# Altium schematic symbol library Capacitance_Schlib.SchLib: 118 symbols
Pins are listed as number, name and electrical type; pins without a type are passive.

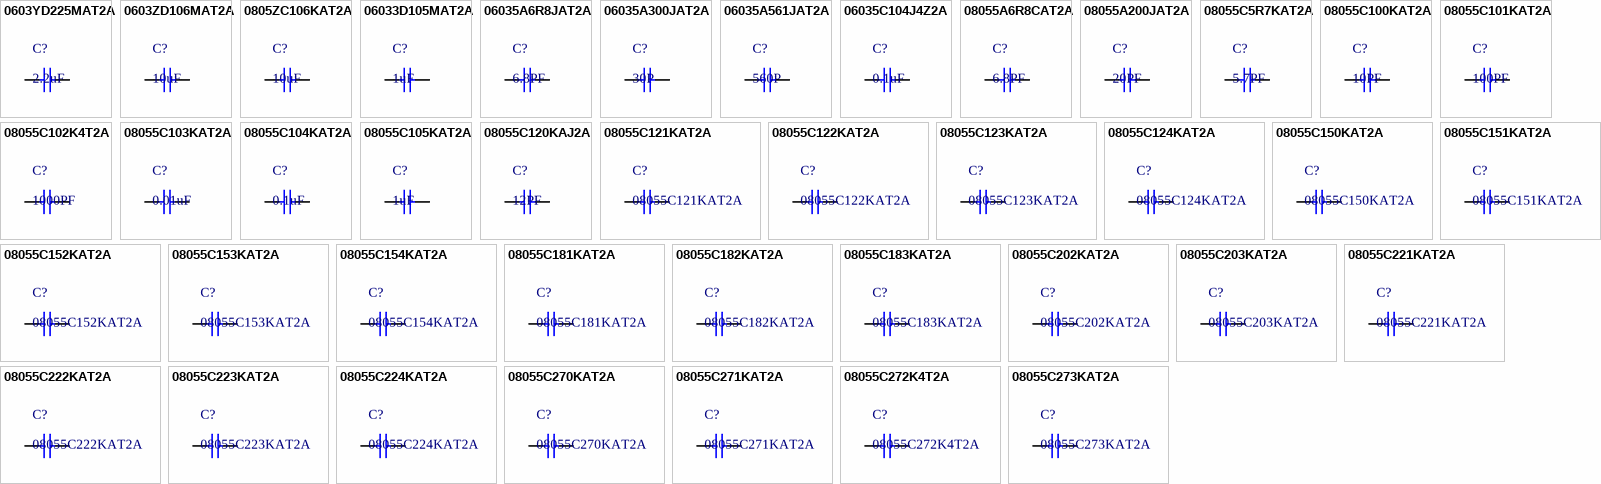
[diagram p0: symbols 0603YD225MAT2A to 08055C273KAT2A]

## 0603YD225MAT2A
designator C?, comment 2.2uF
陶瓷電容 2.2uF 16V 20% SMD0603; 製造商: AVX; 單價: 9.9; 代理商: mouser; 資料手冊: http://www.mouser.com/ds/2/40/X7RDielectric-777024.pdf; 參考網站: http://www.mouser.tw/ProductDetail/AVX/0603YD225MAT2A/?qs=sGAEpiMZZMs0AnBnWHyRQCTbZkhRx37b0dnaJ5NahmQ%3d
footprint SMD 0603 (SMD 0805)
pins: 1, 2

## 0603ZD106MAT2A
designator C?, comment 10uF
陶瓷電容 10uF 10V 20% SMD0603; 製造商: AVX; 單價: 6.78; 代理商: digikey; 資料手冊: http://www.mouser.com/ds/2/40/X7RDielectric-777024.pdf; 參考網站: http://www.digikey.tw/product-detail/zh/avx-corporation/0603ZD106MAT2A/478-8050-2-ND/3900648
footprint SMD 0603 (SMD 0805)
pins: 1, 2

## 0805ZC106KAT2A
designator C?, comment 10uF
陶瓷電容 10uF 10V  10% SMD0805; 製造商: AVX; 單價: 62.44; 代理商: mouser; 資料手冊: http://www.mouser.com/ds/2/40/X7RDielectric-777024.pdf; 參考網站: http://www.mouser.tw/ProductDetail/AVX/0805ZC106KAT2A/?qs=a6Vv43ErYnwKY7IABhy%2FMg%3D%3D
footprint SMD 0805 (SMD 0805 陶瓷電容 50V)
pins: 1, 2

## 06033D105MAT2A
designator C?, comment 1uF
陶瓷電容 1uF 25V 20% SMD0603; 製造商: AVX; 單價: 6.78; 代理商: mouser; 資料手冊: http://www.mouser.com/ds/2/40/X7RDielectric-777024.pdf; 參考網站: http://www.mouser.tw/ProductDetail/AVX/06035C104J4Z2A/?qs=sGAEpiMZZMs0AnBnWHyRQH30J%252bLMp8E0TlDTmHRkWoc%3d
footprint SMD 0603 (SMD 0805)
pins: 1, 2

## 06035A6R8JAT2A
designator C?, comment 6.8PF
陶瓷電容 6.8pF 50V 5% SMD0603; 製造商: AVX; 單價: 3.57; 代理商: mouser; 資料手冊: http://www.mouser.com/ds/2/40/X7RDielectric-777024.pdf; 參考網站: http://www.mouser.tw/ProductDetail/AVX/06035A6R8JAT2A/?qs=sGAEpiMZZMs0AnBnWHyRQLKEv3Y86MKRy7u2jyxR4co%3d
footprint SMD 0603 (SMD 0805)
pins: 1, 2

## 06035A300JAT2A
designator C?, comment 30P
陶瓷電容 30pF 50V 5% SMD0603; 製造商: AVX; 單價: 5.35; 代理商: mouser; 資料手冊: http://www.mouser.com/ds/2/40/X7RDielectric-777024.pdf; 參考網站: http://www.mouser.tw/ProductDetail/AVX/06035A300JAT2A/?qs=sGAEpiMZZMs0AnBnWHyRQE2IRmxFPR1eLpipJh0EnfI%3d
footprint SMD 0603 (SMD 0805)
pins: 1, 2

## 06035A561JAT2A
designator C?, comment 560P
陶瓷電容 560pF 50V 5% SMD0603; 製造商: AVX; 單價: 3.57; 代理商: mouser; 資料手冊: http://www.mouser.com/ds/2/40/X7RDielectric-777024.pdf; 參考網站: http://www.mouser.tw/ProductDetail/AVX/06035A561JAT2A/?qs=sGAEpiMZZMs0AnBnWHyRQLKEv3Y86MKRbDFJTOwNcPQ%3d
footprint SMD 0603 (SMD 0805)
pins: 1, 2

## 06035C104J4Z2A
designator C?, comment 0.1uF
陶瓷電容 0.1uF 50V 5% SMD0603; 製造商: AVX; 單價: 5.24; 代理商: mouser; 資料手冊: http://www.mouser.com/ds/2/40/X7RDielectric-777024.pdf; 參考網站: http://www.mouser.tw/ProductDetail/AVX/06035C104J4Z2A/?qs=sGAEpiMZZMs0AnBnWHyRQH30J%252bLMp8E0TlDTmHRkWoc%3d
footprint SMD 0603 (SMD 0805)
pins: 1, 2

## 08055A6R8CAT2A
designator C?, comment 6.8PF
陶瓷電容 6.8PF 50V  10% SMD0805; 製造商: AVX; 單價: 6.07; 代理商: mouser; 資料手冊: http://www.mouser.com/ds/2/40/X7RDielectric-777024.pdf; 參考網站: http://www.mouser.tw/ProductDetail/AVX/08055A6R8CAT2A/?qs=sGAEpiMZZMs0AnBnWHyRQAO9wz3NDm%2fChKyx6%2foi2Z8%3d
footprint SMD 0805
pins: 1, 2

## 08055A200JAT2A
designator C?, comment 20PF
陶瓷電容 20PF 50V  10% SMD0805; 製造商: AVX; 代理商: mouser; 單價: 7.85; 資料手冊: http://www.mouser.com/ds/2/40/X7RDielectric-777024.pdf; 參考網站: http://www.mouser.tw/ProductDetail/AVX/08055A200JAT2A/?qs=sGAEpiMZZMs0AnBnWHyRQKZcV7shucx0JFh1aHl0M8U%3d
footprint SMD 0805 (SMD 0805 陶瓷電容 50V)
pins: 1, 2

## 08055C5R7KAT2A
designator C?, comment 5.7PF
陶瓷電容 5.7PF 50V  10% SMD0805; 製造商: AVX; 單價: 8.56; 代理商: mouser; 資料手冊: http://www.mouser.com/ds/2/40/X7RDielectric-777024.pdf; 參考網站: http://www.mouser.tw/ProductDetail/AVX/08055C5R7KAT2A/?qs=%2fha2pyFadugwavEQUkEgxtHi6sw3BJZcSyBGQDR4yzbDgYhvZsBLvw%3d%3d
footprint SMD 0805
pins: 1, 2

## 08055C100KAT2A
designator C?, comment 10PF
陶瓷電容 10PF 50V  10% SMD0805; 製造商: AVX; 單價: 3.57; 代理商: mouser; 資料手冊: http://www.mouser.com/ds/2/40/X7RDielectric-777024.pdf; 參考網站: http://www.mouser.tw/ProductDetail/AVX/08055C100KAT2A/?qs=%2fha2pyFadugABdYl%252bpvDCSC5VxVC9CXiCwEJpNk5xdxbl3LvaOeL0g%3d%3d
footprint SMD 0805 (SMD 0805 陶瓷電容 50V)
pins: 1, 2

## 08055C101KAT2A
designator C?, comment 100PF
陶瓷電容 100PF 50V  10% SMD0805; 製造商: AVX; 單價: 3.57; 代理商: mouser; 資料手冊: http://www.mouser.com/ds/2/40/X7RDielectric-777024.pdf; 參考網站: http://www.mouser.tw/ProductDetail/AVX/08055C101KAT2A/?qs=%2fha2pyFadugABdYl%252bpvDCc2iBqrY81QQbrR%252bYzhKnlIOAG420oOEXw%3d%3d
footprint SMD 0805 (SMD 0805 陶瓷電容 50V)
pins: 1, 2

## 08055C102K4T2A
designator C?, comment 1000PF
陶瓷電容 1000PF 50V  10% SMD0805; 製造商: AVX; 單價: 3.57; 代理商: mouser; 資料手冊: http://www.mouser.com/ds/2/40/X7RDielectric-777024.pdf; 參考網站: http://www.mouser.tw/ProductDetail/AVX/08055C102K4T2A/?qs=%2fha2pyFadugABdYl%252bpvDCfPVY%2fz2fpKiyTC33zSVh%252bg6yDTcM9iSAg%3d%3d
footprint SMD 0805 (SMD 0805 陶瓷電容 50V)
pins: 1, 2

## 08055C103KAT2A
designator C?, comment 0.01uF
陶瓷電容 0.01uF 50V  10% SMD0805; 製造商: AVX; 單價: 3.57; 代理商: mouser; 參考網站: http://www.mouser.tw/ProductDetail/AVX/08055C103KAT2A/?qs=%2fha2pyFadugABdYl%252bpvDCfUWmiWnxnZoWzPaZpOflYPE2ZdTONpA7A%3d%3d; 資料手冊: http://www.mouser.com/ds/2/40/X7RDielectric-777024.pdf
footprint SMD 0805 (SMD 0805 陶瓷電容 50V)
pins: 1, 2

## 08055C104KAT2A
designator C?, comment 0.1uF
陶瓷電容 0.1uF 50V  10% SMD0805; 製造商: AVX; 代理商: mouser; 單價: 3.57; 資料手冊: http://www.mouser.com/ds/2/40/X7RDielectric-777024.pdf; 參考網站: http://www.mouser.tw/ProductDetail/AVX/08055C104KAT2A/?qs=%2fha2pyFadugABdYl%252bpvDCSu%2f0gIiDMogsImF%252bHwVCYE51NjgWwhlrg%3d%3d
footprint SMD 0805 (SMD 0805 陶瓷電容 50V)
pins: 1, 2

## 08055C105KAT2A
designator C?, comment 1uF
陶瓷電容 1uF 50V  10% SMD0805; 製造商: AVX; 代理商: mouser; 單價: 57.09; 資料手冊: http://www.mouser.com/ds/2/40/X7RDielectric-777024.pdf; 參考網站: http://www.mouser.tw/ProductDetail/AVX/08055C105KAT2A/?qs=sGAEpiMZZMs0AnBnWHyRQAO9wz3NDm%2fCuJz%252bSTTZ0Vw%3d
footprint SMD 0805 (SMD 0805 陶瓷電容 50V)
pins: 1, 2

## 08055C120KAJ2A
designator C?, comment 12PF
陶瓷電容 12PF 50V  10% SMD0805; 製造商: AVX; 代理商: mouser; 單價: 5.42; 資料手冊: http://www.mouser.com/ds/2/40/X7RDielectric-777024.pdf; 參考望站: http://www.mouser.tw/ProductDetail/AVX/08055C120KAJ2A/?qs=%2fha2pyFaduhvDSS1lqvv289BFqqSURwO2sh4a1VaIY6whiWkidbFGQ%3d%3d
footprint SMD 0805 (SMD 0805 陶瓷電容 50V)
pins: 1, 2

## 08055C121KAT2A
designator C?
陶瓷電容 120PF 50V  10% SMD0805; 製造商: AVX; 代理商: mouser; 單價: 10.70; 資料手冊: http://www.mouser.com/ds/2/40/X7RDielectric-777024.pdf; 參考網站: http://www.mouser.tw/ProductDetail/AVX/08055C121KAT2A/?qs=%2fha2pyFaduhvDSS1lqvv2zQtgJIpaR%252b4QmdwHy9IXOGj8VaReNZ%2f3w%3d%3d
footprint SMD 0805 (SMD 0805 陶瓷電容 50V)
pins: 1, 2

## 08055C122KAT2A
designator C?
陶瓷電容 1200PF 50V  10% SMD0805; 製造商: AVX; 單價: 3.57; 代理商: mouser; 資料手冊: http://www.mouser.com/ds/2/40/X7RDielectric-777024.pdf; 參考網站: http://www.mouser.tw/ProductDetail/AVX/08055C122KAT2A/?qs=%2fha2pyFaduhvDSS1lqvv2zwVoEBVMpfPRx31WDuYxHPN9NFL%2fznY0A%3d%3d
footprint SMD 0805 (SMD 0805 陶瓷電容 50V)
pins: 1, 2

## 08055C123KAT2A
designator C?
陶瓷電容 0.012uF 50V  10% SMD0805; 製造商: AVX; 代理商: mouser; 單價: 3.57; 資料手冊: http://www.mouser.com/ds/2/40/X7RDielectric-777024.pdf; 參考網站: http://www.mouser.tw/ProductDetail/AVX/08055C123KAT2A/?qs=%2fha2pyFaduhvDSS1lqvv21dbH7VJPfJtCSCEsQc%2fXEQL%252biUjfj2qIg%3d%3d
footprint SMD 0805 (SMD 0805 陶瓷電容 50V)
pins: 1, 2

## 08055C124KAT2A
designator C?
陶瓷電容 0.12uF 50V  10% SMD0805; 製造商: AVX; 代理商: mouser; 單價: 5.71; 資料手冊: http://www.mouser.com/ds/2/40/X7RDielectric-777024.pdf; 參考網站: http://www.mouser.tw/ProductDetail/AVX/08055C124KAT2A/?qs=%2fha2pyFaduhvDSS1lqvv290q9uUvEeaDqlsqQqD5Jl1j%252blcf5eIL6g%3d%3d
footprint SMD 0805 (SMD 0805 陶瓷電容 50V)
pins: 1, 2

## 08055C150KAT2A
designator C?
陶瓷電容 15PF 50V  10% SMD0805; 製造商: AVX; 代理商: mouser; 單價: 8.92; 資料手冊: http://www.mouser.com/ds/2/40/X7RDielectric-777024.pdf; 參考網站: http://www.mouser.tw/ProductDetail/AVX/08055C150KAT2A/?qs=%2fha2pyFaduj6QpEZmq%252bAX8a7ZIh8Pc0qYD1fiVI%2fgu92TjSlY8ImWg%3d%3d
footprint SMD 0805 (SMD 0805 陶瓷電容 50V)
pins: 1, 2

## 08055C151KAT2A
designator C?
陶瓷電容 150PF 50V  10% SMD0805; 製造商: AVX; 代理商: mouser; 單價: 3.57; 資料手冊: http://www.mouser.com/ds/2/40/X7RDielectric-777024.pdf; 參考網站: http://www.mouser.tw/ProductDetail/AVX/08055C151KAT2A/?qs=%2fha2pyFaduj6QpEZmq%252bAX6nCnr4go4SrvrccrMxObCbK0LeLHZnGtg%3d%3d
footprint SMD 0805 (SMD 0805 陶瓷電容 50V)
pins: 1, 2

## 08055C152KAT2A
designator C?
陶瓷電容 1500PF 50V  10% SMD0805; 製造商: AVX; 代理商: mouser; 單價: 3.57; 資料手冊: http://www.mouser.com/ds/2/40/X7RDielectric-777024.pdf; 參考網站: http://www.mouser.tw/ProductDetail/AVX/08055C152KAT2A/?qs=%2fha2pyFaduj6QpEZmq%252bAXwPZ%252b8G8ktHufeQdSt55UvcoP%252b7C%252bpdOLA%3d%3d
footprint SMD 0805 (SMD 0805 陶瓷電容 50V)
pins: 1, 2

## 08055C153KAT2A
designator C?
陶瓷電容 0.015uF 50V  10% SMD0805; 製造商: AVX; 代理商: mouser; 單價: 3.57; 資料手冊: http://www.mouser.com/ds/2/40/X7RDielectric-777024.pdf; 參考網站: http://www.mouser.tw/ProductDetail/AVX/08055C152KAT2A/?qs=%2fha2pyFaduj6QpEZmq%252bAXwPZ%252b8G8ktHufeQdSt55UvcoP%252b7C%252bpdOLA%3d%3d
footprint SMD 0805 (SMD 0805 陶瓷電容 50V)
pins: 1, 2

## 08055C154KAT2A
designator C?
陶瓷電容 0.15uF 50V  10% SMD0805; 製造商: AVX; 代理商: mouser; 單價: 15.70; 資料手冊: http://www.mouser.com/ds/2/40/X7RDielectric-777024.pdf; 參考網站: http://www.mouser.tw/ProductDetail/AVX/08055C154KAT2A/?qs=%2fha2pyFaduj6QpEZmq%252bAX5c5Jqq4gj0GUOoyZofpe4uHdJjO%252bURpkg%3d%3d
footprint SMD 0805 (SMD 0805 陶瓷電容 50V)
pins: 1, 2

## 08055C181KAT2A
designator C?
陶瓷電容 180PF 50V  10% SMD0805; 製造商: AVX; 代理商: mouser; 單價: 9.99; 資料手冊: http://www.mouser.com/ds/2/40/X7RDielectric-777024.pdf; 參考網站: http://www.mouser.tw/ProductDetail/AVX/08055C181KAT2A/?qs=%2fha2pyFaduhODsQ2w18WQ9qSDGQK4eqncz%252bmuS4bmrUhsp5knG%252b8qQ%3d%3d
footprint SMD 0805 (SMD 0805 陶瓷電容 50V)
pins: 1, 2

## 08055C182KAT2A
designator C?
陶瓷電容 1800PF 50V  10% SMD0805; 製造商: AVX; 代理商: mouser; 單價: 3.57; 資料手冊: http://www.mouser.com/ds/2/40/X7RDielectric-777024.pdf; 參考網站: http://www.mouser.tw/ProductDetail/AVX/08055C182KAT2A/?qs=%2fha2pyFaduhODsQ2w18WQyL%2fhur%2fcGrZBGCZs3Lwwq0rbwbbWnp0qQ%3d%3d
footprint SMD 0805 (SMD 0805 陶瓷電容 50V)
pins: 1, 2

## 08055C183KAT2A
designator C?
陶瓷電容 0.018uF 50V  10% SMD0805; 製造商: AVX; 代理商: mouser; 單價: 5.71; 資料手冊: http://www.mouser.com/ds/2/40/X7RDielectric-777024.pdf; 參考網站: http://www.mouser.tw/ProductDetail/AVX/08055C183KAT2A/?qs=%2fha2pyFaduhODsQ2w18WQ8nCLIDiNshg1%2f6VQo2%252bJSUrKufCOGkLIA%3d%3d
footprint SMD 0805 (SMD 0805 陶瓷電容 50V)
pins: 1, 2

## 08055C202KAT2A
designator C?
陶瓷電容 2000PF 50V  10% SMD0805; 製造商: AVX; 代理商: mouser; 單價: 9.99; 資料手冊: http://www.mouser.com/ds/2/40/X7RDielectric-777024.pdf; 參考網站: http://www.mouser.tw/ProductDetail/AVX/08055C202KAT2A/?qs=%2fha2pyFaduj5PEQTHbgXxcNN9nhH3i5Avb2hs4zjnjXJeh2X7EJW%2fA%3d%3d
footprint SMD 0805 (SMD 0805 陶瓷電容 50V)
pins: 1, 2

## 08055C203KAT2A
designator C?
陶瓷電容 0.02uF 50V  10% SMD0805; 製造商: AVX; 單價: 5.00; 代理商: mouser; 資料手冊: http://www.mouser.com/ds/2/40/X7RDielectric-777024.pdf; 參考網站: http://www.mouser.tw/ProductDetail/AVX/08055C203KAT2A/?qs=%2fha2pyFaduj5PEQTHbgXxVDUT1T5bxwfkl8K%252b%2fx%2fMteywBtBq6mkuQ%3d%3d
footprint SMD 0805 (SMD 0805 陶瓷電容 50V)
pins: 1, 2

## 08055C221KAT2A
designator C?
陶瓷電容 220PF 50V  10% SMD0805; 製造商: AVX; 代理商: mouser; 單價: 5.07; 資料手冊: http://www.mouser.com/ds/2/40/X7RDielectric-777024.pdf; 參考網站: http://www.mouser.tw/ProductDetail/AVX/08055C221KAT2A/?qs=%2fha2pyFaduhiyqy4tQImpE5cSr3sKtKTPewuF11yuIkLMTEl8SEPcg%3d%3d
footprint SMD 0805 (SMD 0805 陶瓷電容 50V)
pins: 1, 2

## 08055C222KAT2A
designator C?
陶瓷電容 2200PF 50V  10% SMD0805; 製造商: AVX; 單價: 3.57; 代理商: mouser; 資料手冊: http://www.mouser.com/ds/2/40/X7RDielectric-777024.pdf; 參考網站: http://www.mouser.tw/ProductDetail/AVX/08055C222KAT2A/?qs=%2fha2pyFaduhiyqy4tQImpKpknetSnsDiX5ib5UzanEUEfEpg%252bqU8BA%3d%3d
footprint SMD 0805 (SMD 0805 陶瓷電容 50V)
pins: 1, 2

## 08055C223KAT2A
designator C?
陶瓷電容 0.022uF 50V  10% SMD0805; 製造商: AVX; 代理商: mouser; 單價: 3.57; 資料手冊: http://www.mouser.com/ds/2/40/X7RDielectric-777024.pdf; 參考網站: http://www.mouser.tw/ProductDetail/AVX/08055C223KAT2A/?qs=%2fha2pyFaduhiyqy4tQImpCkMoPNnbhZ0EA56uwwgGBreJN33ZT3sSw%3d%3d
footprint SMD 0805 (SMD 0805 陶瓷電容 50V)
pins: 1, 2

## 08055C224KAT2A
designator C?
陶瓷電容 0.22uF 50V  10% SMD0805; 製造商: AVX; 代理商: mouser; 單價: 4.28; 資料手冊: http://www.mouser.com/ds/2/40/X7RDielectric-777024.pdf; 參考網站: http://www.mouser.tw/ProductDetail/AVX/08055C224KAT2A/?qs=sGAEpiMZZMs0AnBnWHyRQKdiqyDPVQdAnFaDfxbpL%2fE%3d
footprint SMD 0805 (SMD 0805 陶瓷電容 50V)
pins: 1, 2

## 08055C270KAT2A
designator C?
陶瓷電容 27PF 50V  10% SMD0805; 製造商: AVX; 代理商: mouser; 單價: 8.21; 資料手冊: http://www.mouser.com/ds/2/40/X7RDielectric-777024.pdf; 參考網站: http://www.mouser.tw/ProductDetail/AVX/08055C270KAT2A/?qs=%2fha2pyFaduhkPjja%2ffED6bKRfn%252bpTtmXtaVFEVU8SC6eMeCffBdBrA%3d%3d
footprint SMD 0805 (SMD 0805 陶瓷電容 50V)
pins: 1, 2

## 08055C271KAT2A
designator C?
陶瓷電容 270PF 50V  10% SMD0805; 製造商: AVX; 代理商: mouser; 單價: 6.07; 資料手冊: http://www.mouser.com/ds/2/40/X7RDielectric-777024.pdf; 參考網站: http://www.mouser.tw/ProductDetail/AVX/08055C271KAT2A/?qs=%2fha2pyFaduhkPjja%2ffED6eEbAYaZNCyL3%252bNXTvccu8tSMTcYBGiv8A%3d%3d
footprint SMD 0805 (SMD 0805 陶瓷電容 50V)
pins: 1, 2

## 08055C272K4T2A
designator C?
陶瓷電容 2700PF 50V  10% SMD0805; 製造商: AVX; 代理商: mouser; 單價: 3.92; 資料手冊: http://www.mouser.com/ds/2/40/X7RDielectric-777024.pdf; 參考網站: http://www.mouser.tw/ProductDetail/AVX/08055C272K4T2A/?qs=%2fha2pyFaduhkPjja%2ffED6Qys6F5K89znpyVLNr20U9VPyqjq7SXHCw%3d%3d
footprint SMD 0805 (SMD 0805 陶瓷電容 50V)
pins: 1, 2

## 08055C273KAT2A
designator C?
陶瓷電容 0.027uF 50V  10% SMD0805; 製造商: AVX; 代理商: mouser; 單價: 3.57; 資料手冊: http://www.mouser.com/ds/2/40/X7RDielectric-777024.pdf; 參考網站: http://www.mouser.tw/ProductDetail/AVX/08055C273KAT2A/?qs=%2fha2pyFaduhkPjja%2ffED6XCGh%2feZpTGYgKpkC5hoOGR8h6FDFoLugQ%3d%3d
footprint SMD 0805 (SMD 0805 陶瓷電容 50V)
pins: 1, 2

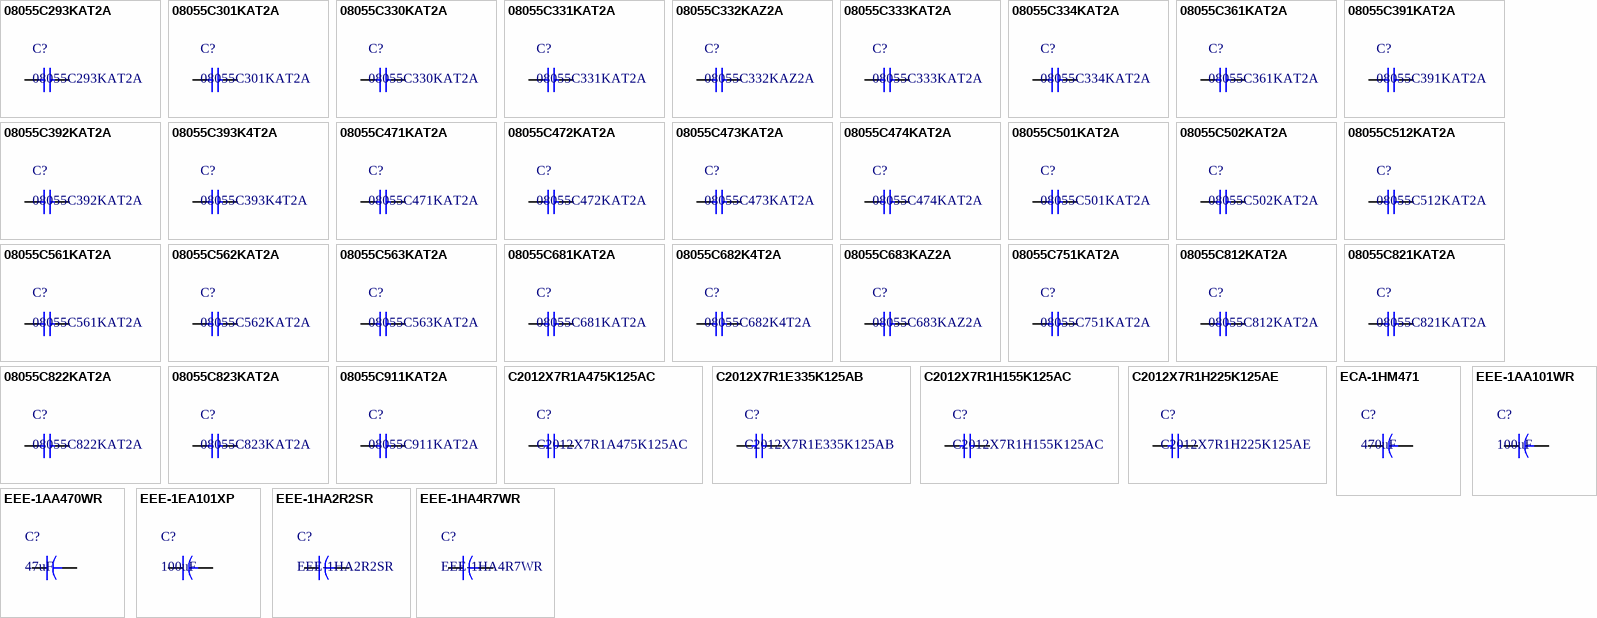
[diagram p1: symbols 08055C293KAT2A to EEE-1HA4R7WR]

## 08055C293KAT2A
designator C?
陶瓷電容 0.029uF 50V  10% SMD0805; 製造商: AVX; 代理商: mouser; 單價: 4.64; 資料手冊: http://www.mouser.com/ds/2/40/X7RDielectric-777024.pdf; 參考網站: http://www.mouser.tw/ProductDetail/AVX/08055C293KAT2A/?qs=%2fha2pyFadugJf2TCnGREBPJyJjLq02XwKV0DdUblw3ADi1UJBTDCuQ%3d%3d
footprint SMD 0805 (SMD 0805 陶瓷電容 50V)
pins: 1, 2

## 08055C301KAT2A
designator C?
陶瓷電容 300PF 50V  10% SMD0805; 製造商: AVX; 代理商: mouser; 單價: 9.28; 資料手冊: http://www.mouser.com/ds/2/40/X7RDielectric-777024.pdf; 參考網站: http://www.mouser.tw/ProductDetail/AVX/08055C301KAT2A/?qs=%2fha2pyFaduiTsiu1yKtwQwZmN0Adb%2fwjl8tQ0oT1R938Rmhr35%2fYTQ%3d%3d
footprint SMD 0805 (SMD 0805 陶瓷電容 50V)
pins: 1, 2

## 08055C330KAT2A
designator C?
陶瓷電容 33PF 50V  10% SMD0805; 製造商: AVX; 代理商: mouser; 單價: 8.92; 資料手冊: http://www.mouser.com/ds/2/40/X7RDielectric-777024.pdf; 參考網站: http://www.mouser.tw/ProductDetail/AVX/08055C330KAT2A/?qs=%2fha2pyFaduhJ1u9vNal0XtHW6b5mmQMjDGZ7v7sHNC8ct8WThUP6zg%3d%3d
footprint SMD 0805 (SMD 0805 陶瓷電容 50V)
pins: 1, 2

## 08055C331KAT2A
designator C?
陶瓷電容 330PF 50V  10% SMD0805; 製造商: AVX; 代理商: mouser; 單價: 6.07; 資料手冊: http://www.mouser.com/ds/2/40/X7RDielectric-777024.pdf; 參考網站: http://www.mouser.tw/ProductDetail/AVX/08055C331KAT2A/?qs=%2fha2pyFaduhJ1u9vNal0Xpw%2fUWniV8YgsN5BtYspK21UYOXOaTB%252bbw%3d%3d
footprint SMD 0805 (SMD 0805 陶瓷電容 50V)
pins: 1, 2

## 08055C332KAZ2A
designator C?
陶瓷電容 3300PF 50V  10% SMD0805; 製造商: AVX; 代理商: mouser; 單價: 6.78; 資料手冊: http://www.mouser.com/ds/2/40/X7RDielectric-777024.pdf; 參考網站: http://www.mouser.tw/ProductDetail/AVX/08055C332KAZ2A/?qs=sGAEpiMZZMs0AnBnWHyRQKdiqyDPVQdA03gzxod9vyk%3d
footprint SMD 0805 (SMD 0805 陶瓷電容 50V)
pins: 1, 2

## 08055C333KAT2A
designator C?
陶瓷電容 0.033uF 50V  10% SMD0805; 製造商: AVX; 代理商: mouser; 單價: 3.57; 資料手冊: http://www.mouser.com/ds/2/40/X7RDielectric-777024.pdf; 參考網站: http://www.mouser.tw/ProductDetail/AVX/08055C333KAT2A/?qs=%2fha2pyFaduhJ1u9vNal0XhBIYCJf8LcLqIh7BAiA%2fv%2fZpQrSadtk6g%3d%3d
footprint SMD 0805 (SMD 0805 陶瓷電容 50V)
pins: 1, 2

## 08055C334KAT2A
designator C?
陶瓷電容 0.33uF 50V  10% SMD0805; 製造商: AVX; 代理商: mouser; 單價: 9.63; 資料手冊: http://www.mouser.com/ds/2/40/X7RDielectric-777024.pdf; 參考網站: http://www.mouser.tw/ProductDetail/AVX/08055C334KAT2A/?qs=%2fha2pyFaduhJ1u9vNal0XjoP0nAcPx35JD6rhzB%252bxdTserfT02A1vA%3d%3d
footprint SMD 0805 (SMD 0805 陶瓷電容 50V)
pins: 1, 2

## 08055C361KAT2A
designator C?
陶瓷電容 360PF 50V  10% SMD0805; 製造商: AVX; 代理商: mouser; 單價: 9.28; 資料手冊: http://www.mouser.com/ds/2/40/X7RDielectric-777024.pdf; 參考網站: http://www.mouser.tw/ProductDetail/AVX/08055C361KAT2A/?qs=%2fha2pyFaduiJFjIaPg2Udq%2fXYXOoxZD3qMqyTRO1Cf4GqgSZNepn5A%3d%3d
footprint SMD 0805 (SMD 0805 陶瓷電容 50V)
pins: 1, 2

## 08055C391KAT2A
designator C?
陶瓷電容 390PF 50V  10% SMD0805; 製造商: AVX; 代理商: mouser; 單價: 6.07; 資料手冊: http://www.mouser.com/ds/2/40/X7RDielectric-777024.pdf; 參考網站: http://www.mouser.tw/ProductDetail/AVX/08055C391KAT2A/?qs=%2fha2pyFadujvYiP%252b0VNUYhTVA3ycD4eP1GlItpv7W7hReeyvRld5FQ%3d%3d
footprint SMD 0805 (SMD 0805 陶瓷電容 50V)
pins: 1, 2

## 08055C392KAT2A
designator C?
陶瓷電容 3900PF 50V  10% SMD0805; 製造商: AVX; 代理商: mouser; 單價: 3.57; 資料手冊: http://www.mouser.com/ds/2/40/X7RDielectric-777024.pdf; 參考網站: http://www.mouser.tw/ProductDetail/AVX/08055C392KAT2A/?qs=%2fha2pyFadujvYiP%252b0VNUYoZkDvIW3J8I8UIc4bHNnEYDKTwTemy1JQ%3d%3d
footprint SMD 0805 (SMD 0805 陶瓷電容 50V)
pins: 1, 2

## 08055C393K4T2A
designator C?
陶瓷電容 0.039uF 50V  10% SMD0805; 製造商: AVX; 代理商: mouser; 單價: 4.28; 資料手冊: http://www.mouser.com/ds/2/40/X7RDielectric-777024.pdf; 參考網站: http://www.mouser.tw/ProductDetail/AVX/08055C393K4T2A/?qs=%2fha2pyFadujvYiP%252b0VNUYs91ME1nYe03G1LsyK47PeRSjvb7jwgkHw%3d%3d
footprint SMD 0805 (SMD 0805 陶瓷電容 50V)
pins: 1, 2

## 08055C471KAT2A
designator C?
陶瓷電容 470PF 50V  10% SMD0805; 製造商: AVX; 代理商: mouser; 單價: 6.07; 資料手冊: http://www.mouser.com/ds/2/40/X7RDielectric-777024.pdf; 參考網站: http://www.mouser.tw/ProductDetail/AVX/08055C471KAT2A/?qs=%2fha2pyFadujqXenhj3%252bwjkWQq7WEKXDCcTxOd9wJvkHIYlw1nAEBXw%3d%3d
footprint SMD 0805 (SMD 0805 陶瓷電容 50V)
pins: 1, 2

## 08055C472KAT2A
designator C?
陶瓷電容 4700PF 50V  10% SMD0805; 製造商: AVX; 代理商: mouser; 單價: 3.57; 資料手冊: http://www.mouser.com/ds/2/40/X7RDielectric-777024.pdf; 參考網站: http://www.mouser.tw/ProductDetail/AVX/08055C472KAT2A/?qs=%2fha2pyFadujqXenhj3%252bwjmtCLX2PDnZV%2fbuAm0Rr1ZItdua6%252bulVgA%3d%3d
footprint SMD 0805 (SMD 0805 陶瓷電容 50V)
pins: 1, 2

## 08055C473KAT2A
designator C?
陶瓷電容 0.047uF 50V  10% SMD0805; 製造商: AVX; 代理商: mouser; 單價: 3.57; 資料手冊: http://www.mouser.com/ds/2/40/X7RDielectric-777024.pdf; 參考網站: http://www.mouser.tw/ProductDetail/AVX/08055C473KAT2A/?qs=%2fha2pyFadujqXenhj3%252bwjvwZqQeP8QOB74r8kT8CQ%2fx6qSenuP4sWg%3d%3d
footprint SMD 0805 (SMD 0805 陶瓷電容 50V)
pins: 1, 2

## 08055C474KAT2A
designator C?
陶瓷電容 0.47uF 50V  10% SMD0805; 製造商: AVX; 代理商: mouser; 單價: 7.49; 資料手冊: http://www.mouser.com/ds/2/40/X7RDielectric-777024.pdf; 參考網站: http://www.mouser.tw/ProductDetail/AVX/08055C474KAT2A/?qs=%2fha2pyFadujqXenhj3%252bwjiP%252bj4Syu5XgzCXz0EF%2fpDsJfw4nmeio3w%3d%3d
footprint SMD 0805 (SMD 0805 陶瓷電容 50V)
pins: 1, 2

## 08055C501KAT2A
designator C?
陶瓷電容 500PF 50V  10% SMD0805; 製造商: AVX; 代理商: mouser; 單價: 9.28; 資料手冊: http://www.mouser.com/ds/2/40/X7RDielectric-777024.pdf; 參考網站: http://www.mouser.tw/ProductDetail/AVX/08055C501KAT2A/?qs=%2fha2pyFaduga9eT6k8Oh%252bC%2fRdO7PIzwtaSj5VuNgHh%2fxlk5cV%2fM6nw%3d%3d
footprint SMD 0805 (SMD 0805 陶瓷電容 50V)
pins: 1, 2

## 08055C502KAT2A
designator C?
陶瓷電容 5000PF 50V  10% SMD0805; 製造商: AVX; 代理商: mouser; 單價: 5.00; 資料手冊: http://www.mouser.com/ds/2/40/X7RDielectric-777024.pdf; 參考網站: http://www.mouser.tw/ProductDetail/AVX/08055C502KAT2A/?qs=%2fha2pyFaduga9eT6k8Oh%252bArsJ3X8%2fm80BFv9SfFeCw21WD7roy%2fmug%3d%3d
footprint SMD 0805 (SMD 0805 陶瓷電容 50V)
pins: 1, 2

## 08055C512KAT2A
designator C?
陶瓷電容 5100PF 50V  10% SMD0805; 製造商: AVX; 代理商: mouser; 單價: 4.64; 資料手冊: http://www.mouser.com/ds/2/40/X7RDielectric-777024.pdf; 參考網站: http://www.mouser.tw/ProductDetail/AVX/08055C512KAT2A/?qs=%2fha2pyFaduilTFGKcIINd82aihhIjNQj69t1fgcezL6%252bribGNP3j8A%3d%3d
footprint SMD 0805 (SMD 0805 陶瓷電容 50V)
pins: 1, 2

## 08055C561KAT2A
designator C?
陶瓷電容 560PF 50V  10% SMD0805; 製造商: AVX; 代理商: mouser; 單價: 6.07; 資料手冊: http://www.mouser.com/ds/2/40/X7RDielectric-777024.pdf; 參考網站: http://www.mouser.tw/ProductDetail/AVX/08055C561KAT2A/?qs=sGAEpiMZZMs0AnBnWHyRQO9s69WCSOSMYd2cgLSQgAg%3d
footprint SMD 0805 (SMD 0805 陶瓷電容 50V)
pins: 1, 2

## 08055C562KAT2A
designator C?
陶瓷電容 5600PF 50V  10% SMD0805; 製造商: AVX; 代理商: mouser; 單價: 5.71; 資料手冊: http://www.mouser.com/ds/2/40/X7RDielectric-777024.pdf; 參考網站: http://www.mouser.tw/ProductDetail/AVX/08055C562KAT2A/?qs=sGAEpiMZZMs0AnBnWHyRQO9s69WCSOSMYomtmQH6XDA%3d
footprint SMD 0805 (SMD 0805 陶瓷電容 50V)
pins: 1, 2

## 08055C563KAT2A
designator C?
陶瓷電容 0.056uF 50V  10% SMD0805; 製造商: AVX; 代理商: mouser; 單價: 3.57; 資料手冊: http://www.mouser.com/ds/2/40/X7RDielectric-777024.pdf; 參考網站: http://www.mouser.tw/ProductDetail/AVX/08055C563KAT2A/?qs=sGAEpiMZZMs0AnBnWHyRQO9s69WCSOSMbfstSvu6HgM%3d
footprint SMD 0805 (SMD 0805 陶瓷電容 50V)
pins: 1, 2

## 08055C681KAT2A
designator C?
陶瓷電容 680PF 50V  10% SMD0805; 製造商: AVX; 代理商: mouser; 單價: 6.07; 資料手冊: http://www.mouser.com/ds/2/40/X7RDielectric-777024.pdf; 參考網站: http://www.mouser.tw/ProductDetail/AVX/08055C681KAT2A/?qs=%2fha2pyFaduiy8pdXGfOaOZ91mGsd8l4MHhAUCg3x%252bX55HSbIL%2ftTjQ%3d%3d
footprint SMD 0805 (SMD 0805 陶瓷電容 50V)
pins: 1, 2

## 08055C682K4T2A
designator C?
陶瓷電容 6800PF 50V  10% SMD0805; 製造商: AVX; 代理商: mouser; 單價: 9.28; 資料手冊: http://www.mouser.com/ds/2/40/X7RDielectric-777024.pdf; 參考網站: http://www.mouser.tw/ProductDetail/AVX/08055C682K4T2A/?qs=%2fha2pyFaduiy8pdXGfOaOf%2fYLTbN6axISyvy2C6AgMQ%252bqqr5qca%2fKw%3d%3d
footprint SMD 0805 (SMD 0805 陶瓷電容 50V)
pins: 1, 2

## 08055C683KAZ2A
designator C?
陶瓷電容 0.068uF 50V  10% SMD0805; 製造商: AVX; 代理商: mouser; 單價: 8.56; 資料手冊: http://www.mouser.com/ds/2/40/X7RDielectric-777024.pdf; 參考網站: http://www.mouser.tw/ProductDetail/AVX/08055C683KAZ2A/?qs=%2fha2pyFaduiy8pdXGfOaOQjkRXIJhAOgzrIqwaQPKumKfcQ7M2kRtw%3d%3d
footprint SMD 0805 (SMD 0805 陶瓷電容 50V)
pins: 1, 2

## 08055C751KAT2A
designator C?
陶瓷電容 750PF 50V  10% SMD0805; 製造商: AVX; 代理商: mouser; 單價: 9.28; 資料手冊: http://www.mouser.com/ds/2/40/X7RDielectric-777024.pdf; 參考網站: http://www.mouser.tw/ProductDetail/AVX/08055C751KAT2A/?qs=%2fha2pyFaduiaj3BJlK4aZnWn1Q4DGH8XWlfQwtNDyr9%2fDUTRTDgqWg%3d%3d
footprint SMD 0805 (SMD 0805 陶瓷電容 50V)
pins: 1, 2

## 08055C812KAT2A
designator C?
陶瓷電容 8100PF 50V  10% SMD0805; 製造商: AVX; 代理商: mouser; 單價: 9.28; 資料手冊: http://www.mouser.com/ds/2/40/X7RDielectric-777024.pdf; 參考網站: http://www.mouser.tw/ProductDetail/AVX/08055C812KAT2A/?qs=%2fha2pyFadui4IbKVKa08BAL76RvbBVwiTslVW4Hri7WM0zBMBQOISw%3d%3d
footprint SMD 0805 (SMD 0805 陶瓷電容 50V)
pins: 1, 2

## 08055C821KAT2A
designator C?
陶瓷電容 820PF 50V  10% SMD0805; 製造商: AVX; 代理商: mouser; 單價: 6.07; 資料手冊: http://www.mouser.com/ds/2/40/X7RDielectric-777024.pdf; 參考網站: http://www.mouser.tw/ProductDetail/AVX/08055C821KAT2A/?qs=%2fha2pyFadugxqtDP3nrXCcSqLA1UrWFP9gNcJO%252bcL1jLAWYFOA1%2fRA%3d%3d
footprint SMD 0805 (SMD 0805 陶瓷電容 50V)
pins: 1, 2

## 08055C822KAT2A
designator C?
陶瓷電容 8200PF 50V  10% SMD0805; 製造商: AVX; 代理商: mouser; 單價: 3.57; 資料手冊: http://www.mouser.com/ds/2/40/X7RDielectric-777024.pdf; 參考網站: http://www.mouser.tw/ProductDetail/AVX/08055C822KAT2A/?qs=%2fha2pyFadugxqtDP3nrXCQcspvidui1ljiycIra5z2JGNWejhEQrhQ%3d%3d
footprint SMD 0805 (SMD 0805 陶瓷電容 50V)
pins: 1, 2

## 08055C823KAT2A
designator C?
陶瓷電容 0.082uF 50V  10% SMD0805; 製造商: AVX; 代理商: mouser; 單價: 3.57; 資料手冊: http://www.mouser.com/ds/2/40/X7RDielectric-777024.pdf; 參考網站: http://www.mouser.tw/ProductDetail/AVX/08055C823KAT2A/?qs=%2fha2pyFadugxqtDP3nrXCYvy2FH8gRCCkpmJrQFkM%252bOS%2f2nzj3lJEw%3d%3d
footprint SMD 0805 (SMD 0805 陶瓷電容 50V)
pins: 1, 2

## 08055C911KAT2A
designator C?
陶瓷電容 910PF 50V  10% SMD0805; 製造商: AVX; 單價: 9.28; 代理商: mouser; 資料手冊: http://www.mouser.com/ds/2/40/X7RDielectric-777024.pdf; 參考網站: http://www.mouser.tw/ProductDetail/AVX/08055C911KAT2A/?qs=%2fha2pyFaduieqt4q4zUlGcHi6nHCyIrdcwnXYP6kMuawODP%2f3oLsUQ%3d%3d
footprint SMD 0805 (SMD 0805 陶瓷電容 50V)
pins: 1, 2

## C2012X7R1A475K125AC
designator C?
陶瓷電容 4.7uF 10V  10% SMD0805; 製造商: TDK; 代理商: mouser; 單價: 9.63; 資料手冊: http://www.mouser.com/ds/2/400/lcc_commercial_soft_en-520032.pdf; 參考網站: http://www.mouser.tw/ProductDetail/TDK/C2012X7R1A475K125AC/?qs=%2fha2pyFaduiVC02s%252bc%2fwRU%252b7%252b3DIjRvbziYx3M5XB2yyeszRYSilYLLVt3i24Ls9
footprint SMD 0805 (SMD 0805 陶瓷電容 50V)
pins: 1, 2

## C2012X7R1E335K125AB
designator C?
陶瓷電容 3.3uF 25V  10% SMD0805; 製造商: TDK; 代理商: mouser; 單價: 17.48; 資料手冊: http://www.mouser.com/ds/2/400/lcc_commercial_soft_en-520032.pdf; 參考網站: http://www.mouser.tw/ProductDetail/TDK/C2012X7R1E335K125AB/?qs=%2fha2pyFaduiVC02s%252bc%2fwRUlq4ekaCKi5D%2fCbZXEAvWYGuRodx%2fAf8yDTUymzP19u
footprint SMD 0805 (SMD 0805 陶瓷電容 50V)
pins: 1, 2

## C2012X7R1H155K125AC
designator C?
陶瓷電容 1.5uF 50V  10% SMD0805; 製造商: TDK; 代理商: mouser; 單價: 24.98; 資料手冊: http://www.mouser.com/ds/2/400/lcc_commercial_soft_en-520032.pdf; 參考網站: http://www.mouser.tw/ProductDetail/TDK/C2012X7R1H155K125AC/?qs=%2fha2pyFaduiVC02s%252bc%2fwRSivWkcwNX7S%252bWawtAaYD%252bNN5qy8FMRoM%2fN696MZA%252bAS
footprint SMD 0805 (SMD 0805 陶瓷電容 50V)
pins: 1, 2

## C2012X7R1H225K125AE
designator C?
陶瓷電容 2.2uF 50V  10% SMD0805; 製造商: TDK; 單價: 20.34; 代理商: mouser; 資料手冊: http://www.mouser.com/ds/2/400/lcc_commercial_soft_en-520032.pdf; 參考網站: http://www.mouser.tw/ProductDetail/TDK/C2012X7R1H225K125AE/?qs=%2fha2pyFaduiVC02s%252bc%2fwRWNZcZMhceEWGOruVWKGqFCl1izYdK2GabhybmDrB9Xq
footprint SMD 0805 (SMD 0805 陶瓷電容 50V)
pins: 1, 2

## ECA-1HM471
designator C?, comment 470uF
電解電容 470uF 50V ,Size D 10mm ,20% ,Low ESR; 製造商: Panasonic; 單價: 24.62; 代理商: mouser; 資料手冊: http://www.mouser.com/ds/2/315/ABA0000CE132-536622.pdf; 參考網站: http://www.mouser.tw/ProductDetail/Panasonic/ECA-1HM471/?qs=sGAEpiMZZMtZ1n0r9vR22YuzYhk2RkTKW%2fcmBVBcKyI%3d
footprint DIP-Body-10mm (電解電容，直徑10mm)
pins: 1, 2

## EEE-1AA101WR
designator C?, comment 100uF
鋁質電解電容 100uF 10V  20% SMD 5mm; 製造商: Panasonic; 單價: 13.56; 代理商: mouser; 資料手冊: http://www.mouser.com/ds/2/315/ABA0000CE120-68386.pdf; 參考網站: http://www.mouser.tw/ProductDetail/Panasonic/EEE-1AA101WR/?qs=sGAEpiMZZMtZ1n0r9vR22cS6GEbW2ftogJPVpyduo%252bI%3d
footprint SMD-CAP-5
pins: 1, 2

## EEE-1AA470WR
designator C?, comment 47uF
鋁質電解電容 47uF 10V  20% SMD 5mm; 製造商: Panasonic; 單價: 13.56; 代理商: mouser; 資料手冊: http://www.mouser.com/ds/2/315/ABA0000CE120-68386.pdf; 參考網站: http://www.mouser.tw/ProductDetail/Panasonic/EEE-1AA470WR/?qs=sGAEpiMZZMtZ1n0r9vR22cS6GEbW2ftoX92HQX44fAg%3d
footprint SMD-CAP-5
pins: 1, 2

## EEE-1EA101XP
designator C?, comment 100uF
鋁質電解電容 100uF 25V  20% SMD 6.3mm; 製造商: Panasonic; 單價: 19.98; 代理商: mouser; 資料手冊: http://www.mouser.com/ds/2/315/ABA0000CE120-68386.pdf; 參考網站: http://www.mouser.tw/ProductDetail/Panasonic/EEE-1AA101WR/?qs=sGAEpiMZZMtZ1n0r9vR22cS6GEbW2ftogJPVpyduo%252bI%3d
footprint SMD-CAP-6_3
pins: 1, 2

## EEE-1HA2R2SR
designator C?
鋁質電解電容 2.2uF 50V  20% SMD 4mm; 製造商: Panasonic; 代理商: mouser; 單價: 15.70; 資料手冊: http://www.mouser.com/ds/2/315/ABA0000CE2-40801.pdf; 參考網站: http://www.mouser.tw/ProductDetail/Panasonic/EEE-1HA2R2SR/?qs=%2fha2pyFaduj9VdHTou7ucr7fgCqWD8X2F9xXXNike4pw2U7rLV2heA%3d%3d
footprint SMD-CAP-4
pins: 1, 2

## EEE-1HA4R7WR
designator C?
鋁質電解電容 4.7uF 50V  20% SMD 4mm; 製造商: Panasonic; 代理商: mouser; 單價: 15.70; 資料手冊: http://www.mouser.com/ds/2/315/ABA0000CE2-40801.pdf; 參考網站: http://www.mouser.tw/ProductDetail/Panasonic/EEE-1HA4R7WR/?qs=%2fha2pyFaduhrWWLCQpnmTV%252bn7uvHUZV0dqg2p2wdocP%252bEboINywELw%3d%3d
footprint SMD-CAP-4
pins: 1, 2

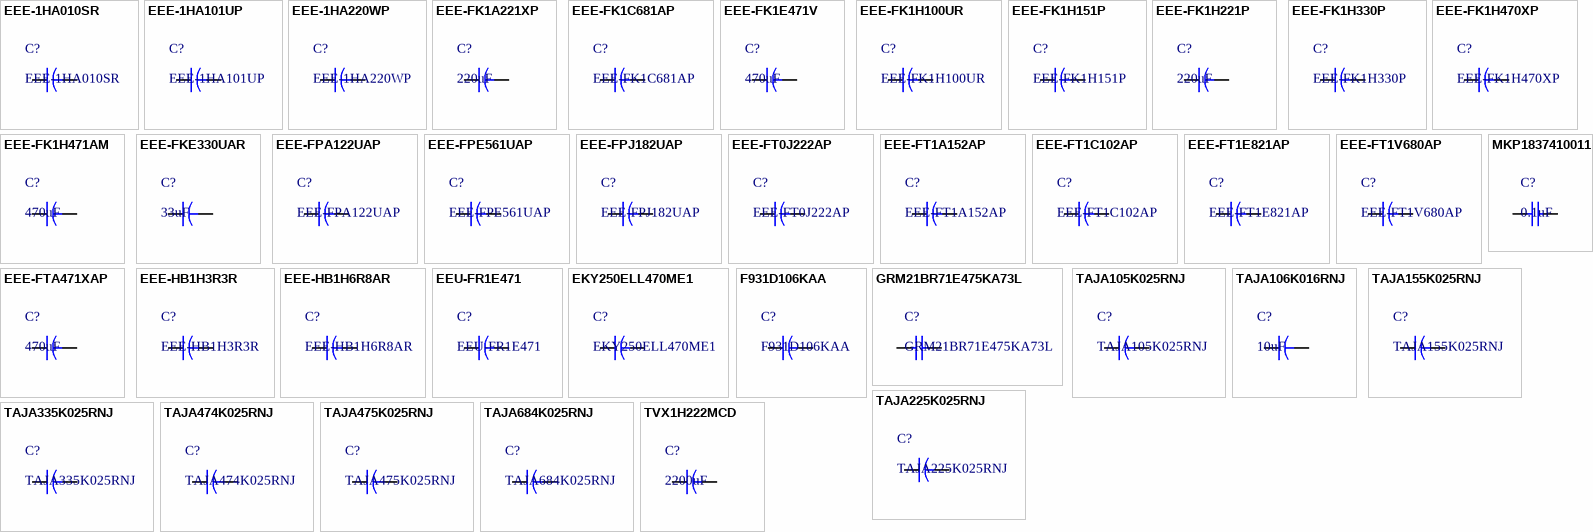
[diagram p2: symbols EEE-1HA010SR to TVX1H222MCD]

## EEE-1HA010SR
designator C?
鋁質電解電容 1uF 50V  20% SMD 4mm; 製造商: Panasonic; 代理商: mouser; 單價: 13.91; 資料手冊: http://www.mouser.com/ds/2/315/ABA0000CE2-40801.pdf; 參考網站: http://www.mouser.tw/ProductDetail/Panasonic/EEE-1HA010SR/?qs=%2fha2pyFadujLZogiDdRx1zLQFLVQqnqalZKByasD2c23ilIgSeEh9Q%3d%3d
footprint SMD-CAP-4
pins: 1, 2

## EEE-1HA101UP
designator C?
鋁質電解電容 100uF 50V  20% SMD 8mm; 製造商: Panasonic; 代理商: mouser; 單價: 25.69; 資料手冊: http://www.mouser.com/ds/2/315/ABA0000CE120-68386.pdf; 參考網站: http://www.mouser.tw/ProductDetail/Panasonic/EEE-1HA101UP/?qs=%2fha2pyFadujvVMem9jLWSX4DMFZX3xEAjtoW5l%2f7U2WJgpqTWSuJEg%3d%3d
footprint SMD-CAP-8
pins: 1, 2

## EEE-1HA220WP
designator C?
鋁質電解電容 22uF 50V  20% SMD 6.3mm; 製造商: Panasonic; 代理商: mouser; 單價: 17.48; 資料手冊: http://www.mouser.com/ds/2/315/ABA0000CE2-40801.pdf; 參考網站: http://www.mouser.tw/ProductDetail/Panasonic/EEE-1HA220WP/?qs=%2fha2pyFaduj9VdHTou7ucvREO%2fnEobr7tkUS1Ld2RvQMz%252bQe7w89mQ%3d%3d
footprint SMD-CAP-6_3
pins: 1, 2

## EEE-FK1A221XP
designator C?, comment 220uF
鋁質電解電容 220uF 10V  20% SMD 6.3mm; 製造商: Panasonic; 代理商: mouser; 單價: 24.26; 資料手冊: http://www.mouser.com/ds/2/315/ABA0000CE2-40801.pdf; 參考網站: http://www.mouser.tw/ProductDetail/Panasonic/EEE-FK1A221XP/?qs=sGAEpiMZZMtZ1n0r9vR22cS6GEbW2fto14JgMwtQ0ek%3d
footprint SMD-CAP-6_3
pins: 1, 2

## EEE-FK1C681AP
designator C?
鋁質電解電容 680uF 16V  20% SMD 10mm; 製造商: Panasonic; 代理商: mouser; 單價: 34.97; 資料手冊: http://www.mouser.com/ds/2/315/ABA0000CE120-68386.pdf; 參考網站: http://www.mouser.tw/ProductDetail/Panasonic/EEE-FK1C681AP/?qs=%2fha2pyFadugyxpIbZVcwfubyVTUJJnC2xjFqqFRRI37mDpufKmAJjw%3d%3d
footprint SMD-CAP-10
pins: 1, 2

## EEE-FK1E471V
designator C?, comment 470uF
鋁質電解電容 470uF 25V  20% SMD 10mm; 製造商: Panasonic; 單價: 54.95; 代理商: mouser; 資料手冊: http://www.mouser.com/ds/2/315/ABA0000CE120-68386.pdf; 參考網站: http://www.mouser.tw/ProductDetail/Panasonic/EEE-FK1E471V/?qs=%2fha2pyFaduiaoYjjIeS%2fW7NQyukMq8XnoLxUrHkbObN8M5qRZm6xag%3d%3d
footprint SMD-CAP-10
pins: 1, 2

## EEE-FK1H100UR
designator C?
鋁質電解電容 10uF 50V  20% SMD 5mm; 製造商: Panasonic; 代理商: mouser; 單價: 19.98; 資料手冊: http://www.mouser.com/ds/2/315/ABA0000CE2-40801.pdf; 參考網站: http://www.mouser.tw/ProductDetail/Panasonic/EEE-FK1H100UR/?qs=%2fha2pyFaduioJWBrqH8qNVBEsP1c4b0Z9b61p2pA7G1Vcrl1E6bymg%3d%3d
footprint SMD-CAP-5
pins: 1, 2

## EEE-FK1H151P
designator C?
鋁質電解電容 150uF 50V  20% SMD 10mm; 製造商: Panasonic; 代理商: mouser; 單價: 34.97; 資料手冊: http://www.mouser.com/ds/2/315/ABA0000CE120-68386.pdf; 參考網站: http://www.mouser.tw/ProductDetail/Panasonic/EEE-FK1H151P/?qs=%2fha2pyFaduioJWBrqH8qNdVz%252b6GOzi5j38to1khWc%252bvE3EvoLJzKyQ%3d%3d
footprint SMD-CAP-10
pins: 1, 2

## EEE-FK1H221P
designator C?, comment 220uF
鋁質電解電容 220uF 50V  20% SMD 10mm; 製造商: Panasonic; 單價: 34.97; 代理商: mouser; 資料手冊: http://www.mouser.com/ds/2/315/ABA0000CE120-68386.pdf; 參考網站: http://www.mouser.tw/ProductDetail/Panasonic/EEE-FK1H221P/?qs=%2fha2pyFaduioJWBrqH8qNcijPCQSw77%252bpLytlHuDdeup2lEE5e2lgA%3d%3d
footprint SMD-CAP-10
pins: 1, 2

## EEE-FK1H330P
designator C?
鋁質電解電容 33uF 50V  20% SMD 6.3mm; 製造商: Panasonic; 代理商: mouser; 單價: 29.26; 資料手冊: http://www.mouser.com/ds/2/315/ABA0000CE120-68386.pdf; 參考網站: http://www.mouser.tw/ProductDetail/Panasonic/EEE-FK1H330P/?qs=%2fha2pyFaduioJWBrqH8qNWub3bRy4ljJdib2WsjfBhDfMO2IpH66CQ%3d%3d
footprint SMD-CAP-6_3
pins: 1, 2

## EEE-FK1H470XP
designator C?
鋁質電解電容 47uF 50V  20% SMD 6.3mm; 製造商: Panasonic; 代理商: mouser; 單價: 24.26; 資料手冊: http://www.mouser.com/ds/2/315/ABA0000CE120-68386.pdf; 參考網站: http://www.mouser.tw/ProductDetail/Panasonic/EEE-FK1H470XP/?qs=%2fha2pyFaduioJWBrqH8qNTJ2jM%2fd%2fZz8LABIiY4k40ELl8ZHXxWY8Q%3d%3d
footprint SMD-CAP-6_3
pins: 1, 2

## EEE-FK1H471AM
designator C?, comment 470uF
鋁質電解電容 470uF 50V  20% SMD 16mm; 製造商: Panasonic; 單價: 78.49; 代理商: mouser; 參考網站: http://www.mouser.tw/ProductDetail/Panasonic/EEE-FK1H471AM/?qs=sGAEpiMZZMtZ1n0r9vR22b%2foTuH5%252bQRjo5Sd890aDJA%3d; 資料手冊: http://www.mouser.com/ds/2/315/ABA0000CE120-68386.pdf
footprint SMD-CAP-16
pins: 1, 2

## EEE-FKE330UAR
designator C?, comment 33uF
鋁質電解電容 33uF 25V  20% SMD 5mm; 製造商: Panasonic; 單價: 22.48; 代理商: mouser; 資料手冊: http://www.mouser.com/ds/2/315/ABA0000CE2-40801.pdf; 參考網站: http://www.mouser.tw/ProductDetail/Panasonic/EEE-FKE330UAR/?qs=sGAEpiMZZMtZ1n0r9vR22YCGMi9egYVUKsQGzUb%2feIE%3d
footprint SMD-CAP-5
pins: 1, 2

## EEE-FPA122UAP
designator C?
鋁質電解電容 1200uF 10V  20% SMD 10mm; 製造商: Panasonic; 代理商: mouser; 單價: 47.10; 資料手冊: http://www.mouser.com/ds/2/315/ABA0000CE120-68386.pdf; 參考網站: http://www.mouser.tw/ProductDetail/Panasonic/EEE-FPA122UAP/?qs=%2fha2pyFadui3za1kTI24HgHYacgo%2fePqN9T0zMxRXpZM3iynebFJ9w%3d%3d
footprint SMD-CAP-10
pins: 1, 2

## EEE-FPE561UAP
designator C?
鋁質電解電容 560uF 25V  20% SMD 10mm; 製造商: Panasonic; 代理商: mouser; 單價: 47.10; 資料手冊: http://www.mouser.com/ds/2/315/ABA0000CE120-68386.pdf; 參考網站: http://www.mouser.tw/ProductDetail/Panasonic/EEE-FPE561UAP/?qs=%2fha2pyFaduhctLbmoHhHsBQeYSRs7kH9hdq2nwbRlSr5zwJQaK3sKQ%3d%3d
footprint SMD-CAP-10
pins: 1, 2

## EEE-FPJ182UAP
designator C?
鋁質電解電容 1800uF 6.3V  20% SMD 10mm; 製造商: Panasonic; 代理商: mouser; 單價: 47.10; 資料手冊: http://www.mouser.com/ds/2/315/ABA0000CE120-68386.pdf; 參考網站: http://www.mouser.tw/ProductDetail/Panasonic/EEE-FPJ182UAP/?qs=%2fha2pyFaduiskwdTxRUvSBSZkoV6uxClYc5H3OQyfjenvtgDUJbdiA%3d%3d
footprint SMD-CAP-10
pins: 1, 2

## EEE-FT0J222AP
designator C?
鋁質電解電容 2200uF 6.3V  20% SMD 10mm; 製造商: Panasonic; 代理商: mouser; 單價: 45.31; 資料手冊: http://www.mouser.com/ds/2/315/ABA0000CE120-68386.pdf; 參考網站: http://www.mouser.tw/ProductDetail/Panasonic/EEE-FT0J222AP/?qs=%2fha2pyFadujE7jMO4oD4MrrGXXkt%252bkwL8YMA0WXSlNDTTsbm0vhdgw%3d%3d
footprint SMD-CAP-10
pins: 1, 2

## EEE-FT1A152AP
designator C?
鋁質電解電容 1500uF 10V  20% SMD 10mm; 製造商: Panasonic; 代理商: mouser; 單價: 50.66; 資料手冊: http://www.mouser.com/ds/2/315/ABA0000CE120-68386.pdf; 參考網站: http://www.mouser.tw/ProductDetail/Panasonic/EEE-FT1A152AP/?qs=%2fha2pyFadujGL%252b%252bucve1snZ9P1RNa8aeh%252bR4%252bPa3XEiTb680nfueRw%3d%3d
footprint SMD-CAP-10
pins: 1, 2

## EEE-FT1C102AP
designator C?
鋁質電解電容 1000uF 16V  20% SMD 10mm; 製造商: Panasonic; 代理商: mouser; 單價: 50.66; 資料手冊: http://www.mouser.com/ds/2/315/ABA0000CE120-68386.pdf; 參考網站: http://www.mouser.tw/ProductDetail/Panasonic/EEE-FT1C102AP/?qs=%2fha2pyFaduj%2fmaGiJmJYig1n6qf%2f1SkN07jF%2f0XKNmUXPjlz49Sy3A%3d%3d
footprint SMD-CAP-10
pins: 1, 2

## EEE-FT1E821AP
designator C?
鋁質電解電容 820uF 25V  20% SMD 10mm; 製造商: Panasonic; 代理商: mouser; 單價: 45.31; 資料手冊: http://www.mouser.com/ds/2/315/ABA0000CE120-68386.pdf; 參考網站: http://www.mouser.tw/ProductDetail/Panasonic/EEE-FT1E821AP/?qs=%2fha2pyFaduihxzGu30xMGGWpI9FAhjpor4x5P7HV%252bUTBjAbdZXppoA%3d%3d
footprint SMD-CAP-10
pins: 1, 2

## EEE-FT1V680AP
designator C?
鋁質電解電容 68uF 35V  20% SMD 6.3mm; 製造商: Panasonic; 代理商: mouser; 單價: 25.69; 資料手冊: http://www.mouser.com/ds/2/315/ABA0000CE120-68386.pdf; 參考網站: http://www.mouser.tw/ProductDetail/Panasonic/EEE-FT1V680AP/?qs=%2fha2pyFadugDoGQOhu%252bpxIDkO43rGvgxxBkEO7a4TM2%252bf6Ih3sK4%2fw%3d%3d
footprint SMD-CAP-6_3
pins: 1, 2

## EEE-FTA471XAP
designator C?, comment 470uF
鋁質電解電容 470uF 10V  20% SMD 6.3mm; 製造商: Panasonic; 單價: 32.86; 代理商: mouser; 資料手冊: http://www.mouser.com/ds/2/315/ABA0000CE120-68386.pdf; 參考網站: http://www.mouser.tw/ProductDetail/Panasonic/EEE-FTA471XAP/?qs=sGAEpiMZZMtZ1n0r9vR22YEN0kVDQfup9YPhA5awmVc%3d
footprint SMD-CAP-6_3
pins: 1, 2

## EEE-HB1H3R3R
designator C?
鋁質電解電容 3.3uF 50V  20% SMD 4mm; 製造商: Panasonic; 代理商: mouser; 單價: 18.91; 資料手冊: http://www.mouser.com/ds/2/315/ABA0000CE2-40801.pdf; 參考網站: http://www.mouser.tw/ProductDetail/Panasonic/EEE-HB1H3R3R/?qs=%2fha2pyFadujLWh2fHgJl1UasZYbJr5UXAou04CLn3pRiLGPWdckklw%3d%3d
footprint SMD-CAP-4
pins: 1, 2

## EEE-HB1H6R8AR
designator C?
鋁質電解電容 6.8uF 50V  20% SMD 5mm; 製造商: Panasonic; 代理商: mouser; 單價: 18.91; 資料手冊: http://www.mouser.com/ds/2/315/ABA0000CE2-40801.pdf; 參考網站: http://www.mouser.tw/ProductDetail/Panasonic/EEE-HB1H6R8AR/?qs=%2fha2pyFadujLWh2fHgJl1SpGyx5d7gg63nWfTN5d0XBUZGx3WOD%252bOA%3d%3d
footprint SMD-CAP-5
pins: 1, 2

## EEU-FR1E471
designator C?
電解電容 470uF 25V ,Size D 10mm ,20% ,Low ESR; 製造商: Panasonic; 單價: 22.28; 代理商: mouser; 資料手冊: http://www.mouser.com/ds/2/315/ABA0000CE132-536622.pdf; 參考網站: http://www.mouser.tw/ProductDetail/United-Chemi-Con/EKY-250ELL470ME11D/?qs=sGAEpiMZZMtZ1n0r9vR22RoXgSGI60nWAi%252b3e2BW3IQ%3d
footprint DIP-Body-10mm (電解電容，直徑10mm)
pins: 1, 2

## EKY250ELL470ME1
designator C?
電解電容 47uF 25V ,Size D 5mm ,20%; 製造商: United Chemi-Con; 單價: 8.92; 代理商: mouser; 資料手冊: http://www.mouser.com/ds/2/420/al-ky-e-140701-514689.pdf; 參考網站: http://www.mouser.tw/ProductDetail/United-Chemi-Con/EKY-250ELL470ME11D/?qs=sGAEpiMZZMtZ1n0r9vR22RoXgSGI60nWAi%252b3e2BW3IQ%3d
footprint DIP-Body-5MM (電解電容，直徑5mm)
pins: 1, 2

## F931D106KAA
designator C?
鉭值電容 10uF 20V  10% CaseA; 製造商: AVX; 單價: 20.69; 代理商: mouser; 資料手冊: http://www.mouser.com/ds/2/40/f93-776559.pdf; 參考網站: http://www.mouser.tw/ProductDetail/AVX/F931D106KAA/?qs=sGAEpiMZZMuEN2agSAc2puC4lhRhLeolrIg8dR9jri4%3d
footprint SMD Case A (Case A 尺寸)
pins: 1, 2

## GRM21BR71E475KA73L
designator C?
陶瓷電容 4.7uF 25V  10% SMD0805; 製造商: TDK; 代理商: mouser; 單價: 11.06; 資料手冊: http://www.mouser.com/ds/2/400/lcc_commercial_soft_en-520032.pdf; 參考網站: http://www.mouser.tw/ProductDetail/Murata/GRM21BR71E475KA73L/?qs=%2fha2pyFaduh%2fEdsyu96AxhUq3HmTfDf0rTwtmbn%2fFLYtPfErguYxSVOqhFZODIJ1
footprint SMD 0805 (SMD 0805 陶瓷電容 50V)
pins: 1, 2

## MKP1837410011
designator C?, comment 0.1uF
薄膜電容器 0.1uF 100V 1%; 製造商: Vishay / Roederstein; 單價: 54.59; 代理商: mouser; 資料手冊: http://www.mouser.com/ds/2/40/X7RDielectric-777024.pdf; 參考網站: http://www.mouser.tw/ProductDetail/Vishay-Roederstein/MKP1837410011/?qs=sGAEpiMZZMv1cc3ydrPrFx9ULflYAhdyMVWtY4Esfn0%3d
footprint MKP1837410011
pins: 1, 2

## TAJA105K025RNJ
designator C?
鉭值電容 1uF 25V  10% CaseA; 製造商: AVX; 代理商: mouser; 單價: 22.48; 資料手冊: http://www.mouser.com/ds/2/40/taj-776811.pdf; 參考網站: http://www.mouser.tw/ProductDetail/AVX/TAJA105K025RNJ/?qs=%2fha2pyFadugcIRbMzl6Nk7eTenkROjcgdpl8%252b84cbWpDVuH0TL0Gew%3d%3d
footprint SMD Case A (Case A 尺寸)
pins: 1, 2

## TAJA106K016RNJ
designator C?, comment 10uF
鉭值電容 10uF 16V  10% CaseA; 製造商: AVX; 單價: 16.06; 代理商: mouser; 資料手冊: http://www.mouser.com/ds/2/40/taj-776811.pdf; 參考網站: http://www.mouser.tw/ProductDetail/AVX/TAJA106K016RNJ/?qs=%2fha2pyFaduhD94bTpKsWaSBRwh82MD7%252bVd6eXYtuziVnbV3m5U%252bh8w%3d%3d
footprint SMD Case A (Case A 尺寸)
pins: 1, 2

## TAJA155K025RNJ
designator C?
鉭值電容 1.5uF 25V  10% CaseA; 製造商: AVX; 代理商: mouser; 單價: 14.27; 資料手冊: http://www.mouser.com/ds/2/40/taj-776811.pdf; 參考網站: http://www.mouser.tw/ProductDetail/AVX/TAJA155K025RNJ/?qs=%2fha2pyFadug7op%2fD3EzMdoIbSKI8xLnDoxeAoLaJU3jmIZWjDiiu4A%3d%3d
footprint SMD Case A (Case A 尺寸)
pins: 1, 2

## TAJA225K025RNJ
designator C?
鉭值電容 2.2uF 25V  10% CaseA; 製造商: AVX; 代理商: mouser; 單價: 22.48; 資料手冊: http://www.mouser.com/ds/2/40/taj-776811.pdf; 參考網站: http://www.mouser.tw/ProductDetail/AVX/TAJA225K025RNJ/?qs=%2fha2pyFaduguuV%2fL6SDovmyd5owJ5nUmm%252bg3emAKHvFgvKSVVgWfcA%3d%3d
footprint SMD Case A (Case A 尺寸)
pins: 1, 2

## TAJA335K025RNJ
designator C?
鉭值電容 3.3uF 25V  10% CaseA; 製造商: AVX; 單價: 25.33; 代理商: mouser; 資料手冊: http://www.mouser.com/ds/2/40/taj-776811.pdf; 參考網站: http://www.mouser.tw/ProductDetail/AVX/TAJA335K025RNJ/?qs=%2fha2pyFadugykVy4rHoNXoiLXkcFg9cKAdqIWVu8%2fFH22%252breyzdV%252bw%3d%3d
footprint SMD Case A (Case A 尺寸)
pins: 1, 2

## TAJA474K025RNJ
designator C?
鉭值電容 0.47uF 25V  10% CaseA; 製造商: AVX; 代理商: mouser; 單價: 14.27; 資料手冊: http://www.mouser.com/ds/2/40/taj-776811.pdf; 參考網站: http://www.mouser.tw/ProductDetail/AVX/TAJA474K025RNJ/?qs=%2fha2pyFaduiW3x%252bXkhzTuzliffBm%2fgC1NMYsFls2PYtKe64XF2morQ%3d%3d
footprint SMD Case A (Case A 尺寸)
pins: 1, 2

## TAJA475K025RNJ
designator C?
鉭值電容 4.7uF 25V  10% CaseA; 製造商: AVX; 代理商: mouser; 單價: 3.57; 資料手冊: http://www.mouser.com/ds/2/40/taj-776811.pdf; 參考網站: http://www.mouser.tw/ProductDetail/AVX/TAJA475K025RNJ/?qs=%2fha2pyFaduh4b%252b4CzTcF2G8MCbXpqFXePmwfjPNOI%252b2vrUxTNKp2JA%3d%3d
footprint SMD Case A (Case A 尺寸)
pins: 1, 2

## TAJA684K025RNJ
designator C?
鉭值電容 0.68uF 25V  10% CaseA; 製造商: AVX; 代理商: mouser; 單價: 40.32; 資料手冊: http://www.mouser.com/ds/2/40/taj-776811.pdf; 參考網站: http://www.mouser.tw/ProductDetail/AVX/TAJA684K025RNJ/?qs=%2fha2pyFaduidRxlq6RhETHRZEdBz7DqAWnnIzuIyvNQ69xiZfVyCZg%3d%3d
footprint SMD Case A (Case A 尺寸)
pins: 1, 2

## TVX1H222MCD
designator C?, comment 2200uF
電解電容 帶引線 2200uF 50V 18x41 20%; 製造商: Nichicon; 單價: 179.82; 代理商: mouser; 資料手冊: http://www.mouser.com/ds/2/293/e-vx-30194.pdf; 參考網站: http://www.mouser.tw/ProductDetail/Nichicon/TVX1H222MCD/?qs=sGAEpiMZZMvwFf0viD3Y3bvIgGpRWz3YvjxNTP6l1ns%3d; 參考網站: http://www.3dcontentcentral.tw/secure/download-model.aspx?catalogid=171&id=363981
footprint CAP-1920 (電解電容器 - 帶引線 18x41)
pins: 1, 2